# EAGLE library part LPC812M101JD20 (library LPC800)
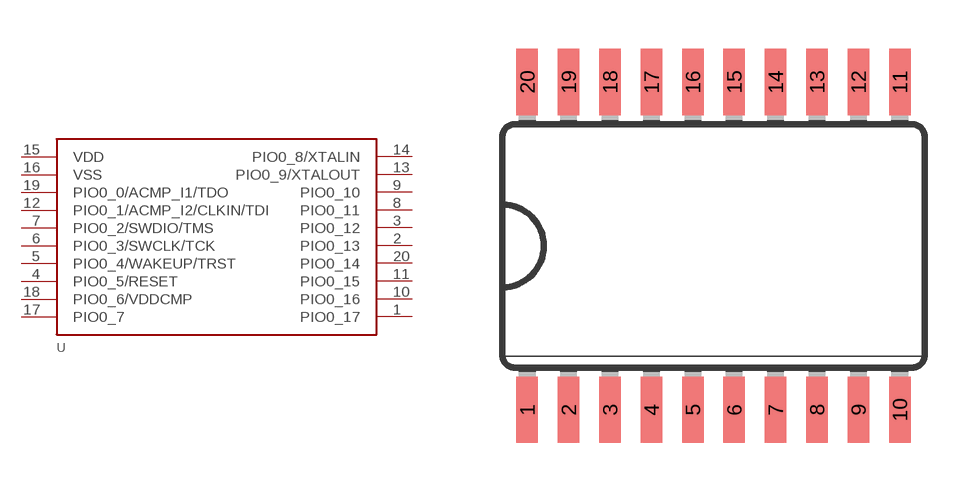
[diagram p3: symbol with the pads of SOIC20WIDE; footprint SOIC20WIDE]

Designator prefix -

## LPC812M101JD20  [SOIC20WIDE]
1  PIO0_17
2  PIO0_13
3  PIO0_12
4  PIO0_5/RESET
5  PIO0_4/WAKEUP/TRST
6  PIO0_3/SWCLK/TCK
7  PIO0_2/SWDIO/TMS
8  PIO0_11
9  PIO0_10
10  PIO0_16
11  PIO0_15
12  PIO0_1/ACMP_I2/CLKIN/TDI
13  PIO0_9/XTALOUT
14  PIO0_8/XTALIN
15  VDD
16  VSS
17  PIO0_7
18  PIO0_6/VDDCMP
19  PIO0_0/ACMP_I1/TDO
20  PIO0_14

## Footprint SOIC20WIDE (pad centres in mm)
smd 0.66 x 2.032: 1 -5.715,-5.029; 2 -4.445,-5.029; 3 -3.175,-5.029; 4 -1.905,-5.029; 5 -0.635,-5.029; 6 0.635,-5.029; 7 1.905,-5.029; 8 3.175,-5.029; 9 4.445,-5.029; 10 5.715,-5.029; 11 5.715,5.029; 12 4.445,5.029; 13 3.175,5.029; 14 1.905,5.029; 15 0.635,5.029; 16 -0.635,5.029; 17 -1.905,5.029; 18 -3.175,5.029; 19 -4.445,5.029; 20 -5.715,5.029